# Altium schematic symbol library SWI-TOG-SPDT.Schlib: 1 symbol
Pins are listed as number, name and electrical type; pins without a type are passive.

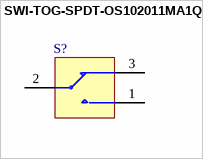
[diagram p0: symbol SWI-TOG-SPDT-OS102011MA1QN1]

## SWI-TOG-SPDT-OS102011MA1QN1
designator S?
SPDT Subminiature Toggle Switch
pins: 1, 2, 3, M1 hidden to GND, M2 hidden to GND